# Altium schematic symbol library Library.SchLib: 18 symbols (part 1 of 2)
Pins are listed as number, name and electrical type; pins without a type are passive.

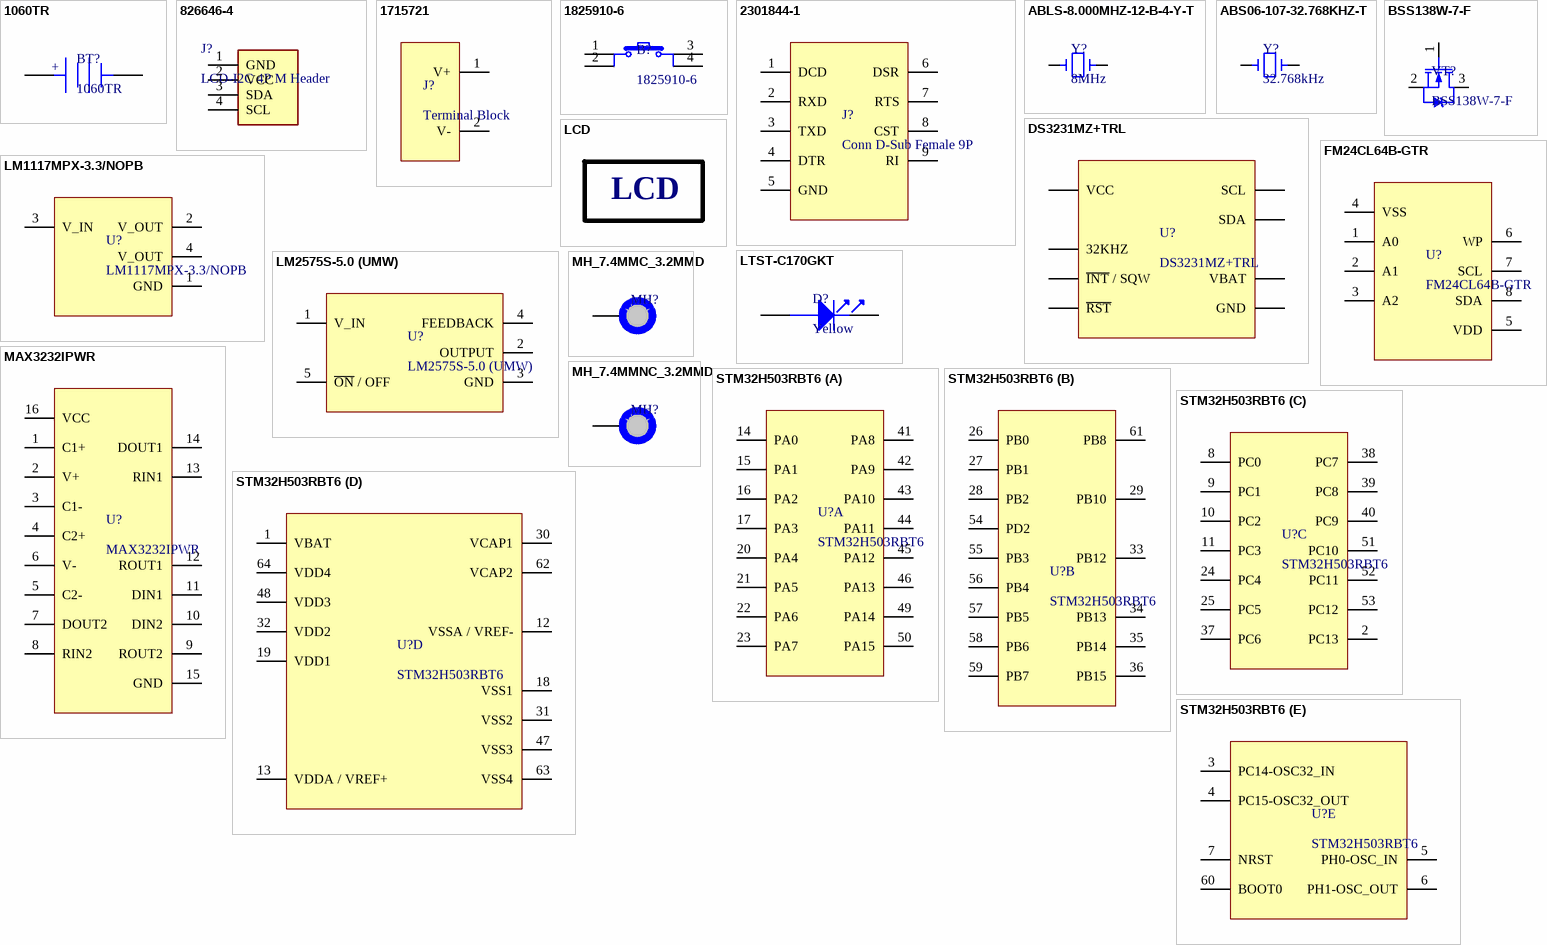
[diagram p0: symbols 1060TR to STM32H503RBT6]

## 1060TR
designator BT?
Low Profile Surface Mount CR2032 Coin Cell Battery Holder; Manufacturer: Keystone; Number of Batteries: 1; Supplier: LCSC; Supplier Part Number: C238069; Manufacturer Part Number: 1060TR; RoHS: Compliant; Category: Batteries and Accessories; Stock: 774; Pricing: 1=0.9433, 10=0.87 (USD); Color: White; Country of Origin: Mainland China; Diameter: 20mm; Export Control Classification Number (ECCN) Code: EAR99; Introduction Date: 2015-11-11; Lead Free: Lead Free; Lifecycle Status: Production; Material: Bronze; Max Operating Temperature: 145°C; Min Operating Temperature: -50°C; Mounting Technology: PCB, Surface Mount; Number of Cells: 1; REACH SVHC: Yes; Termination: SMD/SMT; ComponentLink1URL: https://datasheet.octopart.com:443/1060TR-Keystone-datasheet-21202753.pdf?src-supplier=Farnell; ComponentLink1Description: https://datasheet.octopart.com:443/1060TR-Keystone-datasheet-21202753.pdf?src-supplier=Farnell; ComponentLink2URL: https://datasheet.octopart.com:443/1060TR-Keystone-datasheet-493.pdf?src-supplier=Future+Electronics; ComponentLink2Description: https://datasheet.octopart.com:443/1060TR-Keystone-datasheet-493.pdf?src-supplier=Future+Electronics; ComponentLink3URL: https://datasheet.octopart.com:443/1060TR-Keystone-datasheet-110725636.pdf?src-supplier=Future+Electronics; ComponentLink3Description: https://datasheet.octopart.com:443/1060TR-Keystone-datasheet-110725636.pdf?src-supplier=Future+Electronics; ComponentLink4URL: https://datasheet.octopart.com:443/1060TR-Keystone-datasheet-8326175.pdf?src-supplier=Future+Electronics; ComponentLink4Description: https://datasheet.octopart.com:443/1060TR-Keystone-datasheet-8326175.pdf?src-supplier=Future+Electronics; ComponentLink5URL: https://datasheet.octopart.com:443/1060TR-Keystone-datasheet-159767857.pdf?src-supplier=TME; ComponentLink5Description: https://datasheet.octopart.com:443/1060TR-Keystone-datasheet-159767857.pdf?src-supplier=TME; ComponentLink6URL: https://datasheet.octopart.com:443/1060TR-Keystone-datasheet-137320445.pdf?src-supplier=Sager+Electronics; ComponentLink6Description: https://datasheet.octopart.com:443/1060TR-Keystone-datasheet-137320445.pdf?src-supplier=Sager+Electronics; ComponentLink7URL: https://datasheet.octopart.com:443/1060TR-Keystone-datasheet-14433330.pdf?src-supplier=Factory+Futures; ComponentLink7Description: https://datasheet.octopart.com:443/1060TR-Keystone-datasheet-14433330.pdf?src-supplier=Factory+Futures; ComponentLink8URL: https://datasheet.octopart.com:443/1060TR-Keystone-datasheet-29548.pdf?src-supplier=DigiKey; ComponentLink8Description: https://datasheet.octopart.com:443/1060TR-Keystone-datasheet-29548.pdf?src-supplier=DigiKey
footprint KEYSTONE_1060TR (Battery / Battery Holders, Clips, Contacts / Keystone 1060TR; 3 pin, 31.90 mm L X 16.00 mm W X 5.51 mm H body)
pins: 1, 2
text: +

## 826646-4
designator J?, comment LCD-I2C 4P M Header
Connector; Manufacturer_Name: TE Connectivity; Manufacturer_Part_Number: 826646-4; Datasheet Link: https://www.te.com/commerce/DocumentDelivery/DDEController?Action=srchrtrv&DocNm=826629&DocType=Customer+Drawing&DocLang=English&DocFormat=pdf&PartCntxt=826646-4; Height: 8.8mm; Mouser Part Number: 571-826646-4; Mouser Price/Stock: https://www.mouser.co.uk/ProductDetail/TE-Connectivity/826646-4?qs=iFS2b0%2FgCMG%2Fr%252BKRBAlOvw%3D%3D; Arrow Part Number: 826646-4; Arrow Price/Stock: https://www.arrow.com/en/products/826646-4/te-connectivity?utm_currency=USD&region=europe; Supplier: Mouser; Supplier Part Number: 571-826646-4
footprint HDRV4W68P0X254_1X4_1016X250X880P
pins: 1 GND, 2 VCC, 3 SDA, 4 SCL

## 1715721
designator J?, comment Terminal Block
Terminal Block; 17.5 A; 250 V; 5.08 mm; 26 to 14 AWG; 2; Screw; Solder; 4 kV; Manufacturer: Phoenix Contact; Manufacturer Part Number: 1715721; Approvals: CSA, cUL; Connector Type: PCB, Screw, Terminal Block; Current: 15A; Current Rating: 17.5A; Max Current Rating: 22A; Max Supply Voltage: 250V; Number of Circuits: 2; Number of Levels: 1; Pitch: 5.08mm; Stripping Length: 7mm; Test Voltage: 4kV; Voltage: 300V; Voltage Rating: 400V; Wire/Cable Gauge: 14AWG; Wire Gauge (Max): 26AWG; Supplier: LCSC; Supplier Part Number: C480516; RoHS: Compliant; Category: Terminal Blocks; Stock: 3041; Pricing: 1=0.4719, 10=0.3682, 30=0.3236, 250=0.2599, 500=0.2344, 1000=0.22 (USD); China RoHS: Compliant; Color: Green; Contact Material: Tin; Country of Origin: Germany; Depth: 9.8mm; Export Control Classification Number (ECCN) Code: EAR99; Flammability Rating: UL94 V-0; Height: 17.3mm; Housing Color: Green; Harmonized Tariff Schedule (HTS) Code: 8536.90.40.00; Insulation Material: Nylon; Introduction Date: 1998-01-15; Lead Free: Lead Free; Lead Pitch: 5.08mm; Length: 10.16mm; Lifecycle Status: Production; Max Operating Temperature: 100°C; Min Operating Temperature: -20°C; Mounting Technology: Screw; Number of Contacts: 2; Pins: 2; Number of Poles: 2; Number of Positions: 2; Number of Positions Per Level: 2; Number of Rows: 1; Orientation: Straight; Radiation Hardening: No; REACH SVHC: Yes; Termination: Screw; Voltage Rating (AC): 250V; Weight: 2.939987g; Width: 17.3mm; Wire Gauge (Min): 26AWG; ComponentLink1URL: https://datasheet.octopart.com:443/1715721-Phoenix-Contact-datasheet-181073212.pdf?src-supplier=IHS; ComponentLink1Description: https://datasheet.octopart.com:443/1715721-Phoenix-Contact-datasheet-181073212.pdf?src-supplier=IHS; ComponentLink2URL: https://datasheet.octopart.com:443/1715721-Phoenix-Contact-datasheet-62122377.pdf?src-supplier=Upverter; ComponentLink2Description: https://datasheet.octopart.com:443/1715721-Phoenix-Contact-datasheet-62122377.pdf?src-supplier=Upverter; ComponentLink3URL: https://datasheet.octopart.com:443/1715721-Phoenix-Contact-datasheet-66579234.pdf?src-supplier=Master+Electronics; ComponentLink3Description: https://datasheet.octopart.com:443/1715721-Phoenix-Contact-datasheet-66579234.pdf?src-supplier=Master+Electronics; ComponentLink4URL: https://datasheet.octopart.com:443/1715721-Phoenix-Contact-datasheet-14715205.pdf?src-supplier=Newark; ComponentLink4Description: https://datasheet.octopart.com:443/1715721-Phoenix-Contact-datasheet-14715205.pdf?src-supplier=Newark; ComponentLink5URL: https://datasheet.octopart.com:443/1715721-Phoenix-Contact-datasheet-499485.pdf?src-supplier=Newark; ComponentLink5Description: https://datasheet.octopart.com:443/1715721-Phoenix-Contact-datasheet-499485.pdf?src-supplier=Newark; ComponentLink6URL: https://datasheet.octopart.com:443/1715721-Phoenix-Contact-datasheet-154778360.pdf?src-supplier=Electro+Sonic; ComponentLink6Description: https://datasheet.octopart.com:443/1715721-Phoenix-Contact-datasheet-154778360.pdf?src-supplier=Electro+Sonic; ComponentLink7URL: https://datasheet.octopart.com:443/1715721-Phoenix-Contact-datasheet-9792235.pdf?src-supplier=TodayComponents; ComponentLink7Description: https://datasheet.octopart.com:443/1715721-Phoenix-Contact-datasheet-9792235.pdf?src-supplier=TodayComponents; ComponentLink8URL: https://datasheet.octopart.com:443/1715721-Phoenix-Contact-datasheet-166145896.pdf?src-supplier=Burklin+Elektronik; ComponentLink8Description: https://datasheet.octopart.com:443/1715721-Phoenix-Contact-datasheet-166145896.pdf?src-supplier=Burklin+Elektronik; ComponentLink9URL: https://datasheet.octopart.com:443/1715721-Phoenix-Contact-datasheet-33452854.pdf?src-supplier=MRO+Stop; ComponentLink9Description: https://datasheet.octopart.com:443/1715721-Phoenix-Contact-datasheet-33452854.pdf?src-supplier=MRO+Stop; ComponentLink10URL: https://datasheet.octopart.com:443/1715721-Phoenix-Contact-datasheet-8332660.pdf?src-supplier=Future+Electronics; ComponentLink10Description: https://datasheet.octopart.com:443/1715721-Phoenix-Contact-datasheet-8332660.pdf?src-supplier=Future+Electronics; ComponentLink11URL: https://datasheet.octopart.com:443/1715721-Phoenix-Contact-datasheet-19322.pdf?src-supplier=RS+(Formerly+Allied+Electronics); ComponentLink11Description: https://datasheet.octopart.com:443/1715721-Phoenix-Contact-datasheet-19322.pdf?src-supplier=RS+(Formerly+Allied+Electronics); ComponentLink12URL: https://datasheet.octopart.com:443/1715721-Phoenix-Contact-datasheet-84424.pdf?src-supplier=DigiKey; ComponentLink12Description: https://datasheet.octopart.com:443/1715721-Phoenix-Contact-datasheet-84424.pdf?src-supplier=DigiKey
footprint PHOENIX_1715721 (Connectors, Interconnects / Terminal Blocks / Wire to Board / Phoenix Contact 1715721; 2 pin, 10.00 mm L X 9.80 mm W X 13.80 mm H body)
pins: 1 V+, 2 V-

## 1825910-6
designator B?
Switch Tactile OFF (ON) SPST Round Button PC Pins 0.05A 24VDC 1.57N Thru-Hole Loose; Manufacturer: TE Connectivity; Manufacturer Lifecycle Status: ACTIVE; Actuator Length: 1.397mm; Actuator Material: PBT, Polyacetal, Resin; Contact Current Rating: 50mA; Contact Resistance: 100mΩ; Electrical Life: 100kcycles; Illumination Type: Illuminated, Non-Illuminated; Max Voltage Rating (DC): 24V; Number of Positions: 1; Operating Force: 1.568N; Switch Function: Off-Mom; Switch Travel: 250µm; Supplier: LCSC; Supplier Part Number: C428628; Manufacturer Part Number: 1825910-6; RoHS: Compliant; Category: Pushbutton Switches; Stock: 15605; Pricing: 5=0.1374, 50=0.1164, 150=0.1059, 750=0.094, 2250=0.0877, 5250=0.0845 (USD); China RoHS: Compliant; Color: Black; Contact Material: Copper; Contact Plating: Silver; Current Rating: 50mA; Export Control Classification Number (ECCN) Code: EAR99; ELV: Compliant; Height: 3.61mm; Housing Material: Nylon; Harmonized Tariff Schedule (HTS) Code: 8536.50.90.40; Insulation Resistance: 100MΩ; Introduction Date: 2010-05-28; Lead Free: Lead Free; Length: 5.99mm; Life (Cycles): 100kcycles; Lifecycle Status: Production; Material: Nylon; Max Current Rating: 50mA; Max Operating Temperature: 85°C; Mechanical Life: 100kcycles; Min Operating Temperature: -35°C; Mounting Technology: Through Hole; Orientation: Straight; Packaging: Bulk; REACH SVHC: Yes; Termination: PC Pin, PC Pins; Throw Configuration: SPST; Type: Switch; Voltage Rating (DC): 24V; Width: 6mm; ComponentLink1URL: https://datasheet.octopart.com:443/1825910-6-TE-Connectivity-datasheet-10294628.pdf?src-supplier=HQonline; ComponentLink1Description: https://datasheet.octopart.com:443/1825910-6-TE-Connectivity-datasheet-10294628.pdf?src-supplier=HQonline; ComponentLink2URL: https://datasheet.octopart.com:443/1825910-6-TE-Connectivity-datasheet-179971975.pdf?src-supplier=IHS; ComponentLink2Description: https://datasheet.octopart.com:443/1825910-6-TE-Connectivity-datasheet-179971975.pdf?src-supplier=IHS; ComponentLink3URL: https://datasheet.octopart.com:443/FSM4JH-TE-Connectivity---AMP-datasheet-512274.pdf?src-supplier=IHS; ComponentLink3Description: https://datasheet.octopart.com:443/FSM4JH-TE-Connectivity---AMP-datasheet-512274.pdf?src-supplier=IHS; ComponentLink4URL: https://datasheet.octopart.com:443/1825910-6-TE-Connectivity---Alcoswitch-datasheet-181441334.pdf?src-supplier=IHS; ComponentLink4Description: https://datasheet.octopart.com:443/1825910-6-TE-Connectivity---Alcoswitch-datasheet-181441334.pdf?src-supplier=IHS; ComponentLink5URL: https://datasheet.octopart.com:443/FSM4JH-TE-Connectivity-datasheet-181317608.pdf?src-supplier=IHS; ComponentLink5Description: https://datasheet.octopart.com:443/FSM4JH-TE-Connectivity-datasheet-181317608.pdf?src-supplier=IHS; ComponentLink6URL: https://sigma.octopart.com:443/101748000/technical_drawing/TE-Connectivity-1825910-6.pdf?src-supplier=Sager+Electronics; ComponentLink6Description: https://sigma.octopart.com:443/101748000/technical_drawing/TE-Connectivity-1825910-6.pdf?src-supplier=Sager+Electronics; ComponentLink7URL: https://sigma.octopart.com:443/12291753/technical_drawing/TE-Connectivity-1825910-6.pdf?src-supplier=Burklin+Elektronik; ComponentLink7Description: https://sigma.octopart.com:443/12291753/technical_drawing/TE-Connectivity-1825910-6.pdf?src-supplier=Burklin+Elektronik; ComponentLink8URL: https://datasheet.octopart.com:443/FSM4JH-Tyco-Electronics-datasheet-5302851.pdf?src-supplier=Upverter; ComponentLink8Description: https://datasheet.octopart.com:443/FSM4JH-Tyco-Electronics-datasheet-5302851.pdf?src-supplier=Upverter; ComponentLink9URL: https://sigma.octopart.com:443/58177301/technical_drawing/TE-Connectivity-1825910-6.pdf?src-supplier=TE+Connectivity; ComponentLink9Description: https://sigma.octopart.com:443/58177301/technical_drawing/TE-Connectivity-1825910-6.pdf?src-supplier=TE+Connectivity; ComponentLink10URL: https://datasheet.octopart.com:443/1825910-6-TE-Connectivity-datasheet-33021037.pdf?src-supplier=Farnell; ComponentLink10Description: https://datasheet.octopart.com:443/1825910-6-TE-Connectivity-datasheet-33021037.pdf?src-supplier=Farnell; ComponentLink11URL: https://datasheet.octopart.com:443/FSM4JH-Tyco-Electronics-datasheet-12163206.pdf?src-supplier=Farnell; ComponentLink11Description: https://datasheet.octopart.com:443/FSM4JH-Tyco-Electronics-datasheet-12163206.pdf?src-supplier=Farnell; ComponentLink12URL: https://datasheet.octopart.com:443/FSM4JH-Alcoswitch-datasheet-41434433.pdf?src-supplier=Master+Electronics; ComponentLink12Description: https://datasheet.octopart.com:443/FSM4JH-Alcoswitch-datasheet-41434433.pdf?src-supplier=Master+Electronics; ComponentLink13URL: https://datasheet.octopart.com:443/1825910-6-TE-Connectivity---AMP-datasheet-189108451.pdf?src-supplier=Master+Electronics; ComponentLink13Description: https://datasheet.octopart.com:443/1825910-6-TE-Connectivity---AMP-datasheet-189108451.pdf?src-supplier=Master+Electronics; ComponentLink14URL: https://datasheet.octopart.com:443/1825910-6-TE-Connectivity-datasheet-145419878.pdf?src-supplier=RS+(Formerly+Allied+Electronics); ComponentLink14Description: https://datasheet.octopart.com:443/1825910-6-TE-Connectivity-datasheet-145419878.pdf?src-supplier=RS+(Formerly+Allied+Electronics); ComponentLink15URL: https://datasheet.octopart.com:443/FSM4JH-Agastat-datasheet-15984561.pdf?src-supplier=RS+(Formerly+Allied+Electronics); ComponentLink15Description: https://datasheet.octopart.com:443/FSM4JH-Agastat-datasheet-15984561.pdf?src-supplier=RS+(Formerly+Allied+Electronics); ComponentLink16URL: https://datasheet.octopart.com:443/1825910-6-TE-Connectivity-datasheet-140613545.pdf?src-supplier=TME; ComponentLink16Description: https://datasheet.octopart.com:443/1825910-6-TE-Connectivity-datasheet-140613545.pdf?src-supplier=TME; ComponentLink17URL: https://datasheet.octopart.com:443/1825910-6-TE-Connectivity---AMP-datasheet-23715110.pdf?src-supplier=Electro+Sonic; ComponentLink17Description: https://datasheet.octopart.com:443/1825910-6-TE-Connectivity---AMP-datasheet-23715110.pdf?src-supplier=Electro+Sonic; ComponentLink18URL: http://sigma.octopart.com:80/14574207/rohs_statement/TE-Connectivity-1825910-6.pdf?src-supplier=Compliance+Statements; ComponentLink18Description: http://sigma.octopart.com:80/14574207/rohs_statement/TE-Connectivity-1825910-6.pdf?src-supplier=Compliance+Statements; ComponentLink19URL: http://sigma.octopart.com:80/41598133/materials_sheet/TE-Connectivity-1825910-6.pdf?src-supplier=Compliance+Statements; ComponentLink19Description: http://sigma.octopart.com:80/41598133/materials_sheet/TE-Connectivity-1825910-6.pdf?src-supplier=Compliance+Statements; ComponentLink20URL: http://sigma.octopart.com:80/78006367/materials_sheet/TE-Connectivity-1825910-6.pdf?src-supplier=Compliance+Statements; ComponentLink20Description: http://sigma.octopart.com:80/78006367/materials_sheet/TE-Connectivity-1825910-6.pdf?src-supplier=Compliance+Statements; ComponentLink21URL: http://sigma.octopart.com:80/136693561/materials_sheet/TE-Connectivity-1825910-6.pdf?src-supplier=Compliance+Statements; ComponentLink21Description: http://sigma.octopart.com:80/136693561/materials_sheet/TE-Connectivity-1825910-6.pdf?src-supplier=Compliance+Statements; ComponentLink22URL: http://sigma.octopart.com:80/14555950/rohs_certificate/Agastat-FSM4JH.pdf?src-supplier=Compliance+Statements; ComponentLink22Description: http://sigma.octopart.com:80/14555950/rohs_certificate/Agastat-FSM4JH.pdf?src-supplier=Compliance+Statements
footprint TE_1825910-6 (Switches Tactile Switches; 4 pin, 5.99 mm L X 5.99 mm W X 5.00 mm H body)
pins: 1, 2, 3, 4

## 2301844-1
designator J?, comment Conn D-Sub Female 9P
Conn D-Sub SKT 9 POS 1.39mm Solder RA Thru-Hole 9 Terminal 1 Port Tray; Manufacturer: TE Connectivity; Manufacturer Part Number: 2301844-1; Manufacturer Lifecycle Status: ACTIVE; Contact Current Rating: 2A; Gender: Receptacle; Number of Ports: 1; Number of Positions: 9; Row Spacing: 2.54mm; Shielding: Unshielded; Supplier: LCSC; Supplier Part Number: C3135162; RoHS: Compliant; Category: D-Sub Connectors; Stock: 1425; Pricing: 1=2.2821, 10=1.9697, 30=1.7737, 100=1.5729, 500=1.4821, 1000=1.4423 (USD); China RoHS: Compliant; Color: Black; Connector Type: D-Sub; Contact Gender: Female; Contact Material: Brass; Current Rating: 2A; Export Control Classification Number (ECCN) Code: EAR99; Housing Color: Black; Housing Material: Steel; Harmonized Tariff Schedule (HTS) Code: 8536.69.40.30; Introduction Date: 2021-09-08; Lifecycle Status: Production; Max Operating Temperature: 105°C; Min Operating Temperature: -55°C; Pins: 9; Number of Rows: 2; REACH SVHC: Yes; Shell Finish: Nickel; Shell Material: Steel; Terminal Pitch: 2.77mm; ComponentLink1URL: https://datasheet.octopart.com:443/2301844-1-TE-Connectivity-datasheet-180031964.pdf?src-supplier=Farnell; ComponentLink1Description: https://datasheet.octopart.com:443/2301844-1-TE-Connectivity-datasheet-180031964.pdf?src-supplier=Farnell; ComponentLink2URL: https://sigma.octopart.com:443/145347632/technical_drawing/TE-Connectivity-2301844-1.pdf?src-supplier=HQonline; ComponentLink2Description: https://sigma.octopart.com:443/145347632/technical_drawing/TE-Connectivity-2301844-1.pdf?src-supplier=HQonline; ComponentLink3URL: https://datasheet.octopart.com:443/2301844-1-TE-Connectivity-datasheet-181434920.pdf?src-supplier=JRH+Electronics; ComponentLink3Description: https://datasheet.octopart.com:443/2301844-1-TE-Connectivity-datasheet-181434920.pdf?src-supplier=JRH+Electronics; ComponentLink4URL: https://datasheet.octopart.com:443/2301844-1-TE-Connectivity-datasheet-166213579.pdf?src-supplier=RS+(Formerly+Allied+Electronics); ComponentLink4Description: https://datasheet.octopart.com:443/2301844-1-TE-Connectivity-datasheet-166213579.pdf?src-supplier=RS+(Formerly+Allied+Electronics); ComponentLink5URL: http://sigma.octopart.com:80/145347631/materials_sheet/TE-Connectivity-2301844-1.pdf?src-supplier=Compliance+Statements; ComponentLink5Description: http://sigma.octopart.com:80/145347631/materials_sheet/TE-Connectivity-2301844-1.pdf?src-supplier=Compliance+Statements
footprint DB9_F_TH_RA_TE2301844 (Connectors, Interconnects / D-Sub, D-Shaped Connectors / D-Sub Connector / TE Connectivity 2301844-1; 9 pin, 30.81 mm L X 20.65 mm W X 13.575 mm H body; 9 pin, 30.81 mm L X 20.65 mm W X 13.575 mm H body)
pins: 1 DCD, 2 RXD, 3 TXD, 4 DTR, 5 GND, 6 DSR, 7 RTS, 8 CST, 9 RI

## ABLS-8.000MHZ-12-B-4-Y-T
designator Y?, comment 8MHz
Crystal 8MHz ±30ppm (Tol) ±30ppm (Stability) 12pF FUND 80Ohm 2-Pin HC-49/US SMD T/R; Manufacturer: Abracon; Manufacturer Part Number: ABLS-8.000MHZ-12-B-4-Y-T; ESR (Equivalent Series Resistance): 80Ω; Frequency Tolerance: 0.003%; Supplier: LCSC; Supplier Part Number: C5933213; RoHS: Compliant; Category: Crystals; Stock: 85; Pricing: 1=0.2981, 10=0.2917, 30=0.2885, 100=0.2837 (USD); China RoHS: Compliant; Frequency: 8MHz; Frequency Stability: 30ppm; Height: 4.2mm; Introduction Date: 2014-06-16; Length: 11.4mm; Lifecycle Status: Production; Load Capacitance: 12pF; Max Operating Temperature: 70°C; Min Operating Temperature: -20°C; Mounting Technology: Surface Mount; REACH SVHC: Yes; Schedule B: 8541600025, 8541600080, 8541600080|8541600080, 8541600080|8541600080|8541600080; ESR: 80Ω; Width: 4.7mm; ComponentLink1URL: https://datasheet.octopart.com:443/ABLS-8.000MHZ-12-B-4-Y-T-Abracon-datasheet-182204513.pdf?src-supplier=IHS; ComponentLink1Description: https://datasheet.octopart.com:443/ABLS-8.000MHZ-12-B-4-Y-T-Abracon-datasheet-182204513.pdf?src-supplier=IHS; ComponentLink2URL: https://datasheet.octopart.com:443/ABLS-8.000MHZ-12-B-4-Y-T-Abracon-datasheet-37142362.pdf?src-supplier=IHS; ComponentLink2Description: https://datasheet.octopart.com:443/ABLS-8.000MHZ-12-B-4-Y-T-Abracon-datasheet-37142362.pdf?src-supplier=IHS; ComponentLink3URL: https://datasheet.octopart.com:443/ABLS-8.000MHZ-12-B-4-Y-T-Abracon-datasheet-139816269.pdf?src-supplier=Electro+Sonic; ComponentLink3Description: https://datasheet.octopart.com:443/ABLS-8.000MHZ-12-B-4-Y-T-Abracon-datasheet-139816269.pdf?src-supplier=Electro+Sonic; ComponentLink4URL: https://sigma.octopart.com:443/141159843/technical_drawing/Abracon-ABLS-8.000MHZ-12-B-4-Y-T.pdf?src-supplier=Abracon+SCT; ComponentLink4Description: https://sigma.octopart.com:443/141159843/technical_drawing/Abracon-ABLS-8.000MHZ-12-B-4-Y-T.pdf?src-supplier=Abracon+SCT; ComponentLink5URL: http://sigma.octopart.com:80/conflict_mineral_statement/Abracon-company-27.pdf?src-supplier=Compliance+Statements; ComponentLink5Description: http://sigma.octopart.com:80/conflict_mineral_statement/Abracon-company-27.pdf?src-supplier=Compliance+Statements
footprint ABLS-8.000MHZ-12-B-4-Y-TN (SMD Crystal; 11.40 mm L X 4.70 mm W X 4.30 mm H body)
pins: 1, 2

## ABS06-107-32.768KHZ-T
designator Y?, comment 32.768kHz
Crystal, Tuning Fork, 32.768 kHz, SMD, 2mm x 1.2mm x 0.6mm, 250 ppm, 4.1 pF, 20 ppm, ABS06; Manufacturer: Abracon; Manufacturer Part Number: ABS06-107-32.768KHZ-T; ESR (Equivalent Series Resistance): 60kΩ; Frequency Stability: 250ppm; Frequency Tolerance: 0.002%; Load Capacitance: 4pF; ESR: 80kΩ; Supplier: LCSC; Supplier Part Number: C276418; RoHS: Compliant; Category: Crystals; Stock: 1073; Pricing: 1=0.7093, 10=0.5765, 30=0.5092, 100=0.4436, 500=0.3667, 1000=0.3459 (USD); Case/Package: 0805; Case Code (Imperial): 0805; Case Code (Metric): 2012; China RoHS: Compliant; Contact Plating: Gold; Frequency: 32.768kHz; Height: 600µm; Lead Free: Lead Free; Length: 2.0066mm; Lifecycle Status: Production; Max Operating Temperature: 85°C; Min Operating Temperature: -40°C; Mounting Technology: Surface Mount; Pins: 2; Radiation Hardening: No; REACH SVHC: Yes; Schedule B: 8541600025, 8541600080; Termination: SMD/SMT; Tolerance: 0.002%; Width: 1.1938mm; ComponentLink1URL: https://datasheet.octopart.com:443/ABS06-107-32.768KHZ-T-Abracon-datasheet-182205053.pdf?src-supplier=JRH+Electronics; ComponentLink1Description: https://datasheet.octopart.com:443/ABS06-107-32.768KHZ-T-Abracon-datasheet-182205053.pdf?src-supplier=JRH+Electronics; ComponentLink2URL: https://datasheet.octopart.com:443/ABS06-107-32.768KHZ-T-Abracon-datasheet-41191558.pdf?src-supplier=Sager+Electronics; ComponentLink2Description: https://datasheet.octopart.com:443/ABS06-107-32.768KHZ-T-Abracon-datasheet-41191558.pdf?src-supplier=Sager+Electronics; ComponentLink3URL: https://datasheet.octopart.com:443/ABS06-107-32.768KHZ-T-Abracon-datasheet-21189882.pdf?src-supplier=Sager+Electronics; ComponentLink3Description: https://datasheet.octopart.com:443/ABS06-107-32.768KHZ-T-Abracon-datasheet-21189882.pdf?src-supplier=Sager+Electronics; ComponentLink4URL: https://datasheet.octopart.com:443/ABS06-107-32.768KHZ-T-Abracon-datasheet-37124832.pdf?src-supplier=Newark; ComponentLink4Description: https://datasheet.octopart.com:443/ABS06-107-32.768KHZ-T-Abracon-datasheet-37124832.pdf?src-supplier=Newark; ComponentLink5URL: http://sigma.octopart.com:80/conflict_mineral_statement/Abracon-company-27.pdf?src-supplier=Compliance+Statements; ComponentLink5Description: http://sigma.octopart.com:80/conflict_mineral_statement/Abracon-company-27.pdf?src-supplier=Compliance+Statements
footprint ABRACON_ABS06-107-32_768KHZ-T (Crystals; 2 pin, 2.00 mm L X 1.20 mm W X 0.60 mm H body)
pins: 1, 2

## BSS138W-7-F
designator VT?
Transistor: N-MOSFET; unipolar; 50V; 0.2A; 3.5ohm; 0.2W; -55+150 deg.C; SMD; SOT323(SC70); Manufacturer: Diodes Inc.; Continuous Drain Current (ID): 200mA; Current: 2A; Drain to Source Breakdown Voltage: 75V; Drain to Source Resistance: 3.5Ω; Element Configuration: Single; Gate to Source Voltage (Vgs): 20V; Input Capacitance: 50pF; Max Power Dissipation: 200mW; Nominal Vgs: 1.2V; Number of Channels: 1; Turn-Off Delay Time: 20ns; Value: 3.5Ω; Supplier: LCSC; Supplier Part Number: C24553; Manufacturer Part Number: BSS138W-7-F; RoHS: Compliant; Category: MOSFETs; Stock: 14390; Pricing: 10=0.034, 10=0.039, 10=0.3113, 10=0.2851, 100=0.0313, 100=0.2498, 100=0.0273, 100=0.2288, 300=0.0239, 300=0.0274, 300=0.2003, 300=0.2187, 3000=0.0245, 3000=0.1791, 3000=0.1956, 3000=0.0214, 6000=0.0194, 6000=0.1623, 6000=0.0222, 6000=0.1772, 9000=0.0184, 9000=0.0211, 9000=0.1543, 9000=0.1684 (EUR); Case/Package: SOT-323; China RoHS: Compliant; Contact Plating: Tin; Current Rating: 200mA; Drain to Source Voltage (Vdss): 50V; Dual Supply Voltage: 50V; Height: 1mm; Lead Free: Lead Free; Length: 2.2mm; Lifecycle Status: Production; Max Operating Temperature: 150°C; Min Breakdown Voltage: 50V; Min Operating Temperature: -55°C; Mounting Technology: Surface Mount; Number of Elements: 1; Pins: 3; Number of Terminals: 3; Power Dissipation: 200mW; Rds On Max: 3.5Ω; REACH SVHC: Yes; Schedule B: 8541210080, 8541210080|8541210080|8541210080|8541210080|8541210080; Termination: SMD/SMT; Threshold Voltage: 1.2V; Turn-On Delay Time: 20ns; Voltage: 50V; Voltage Rating (DC): 50V; Weight: 6.010099mg; Width: 1.35mm; ComponentLink1URL: https://datasheet.octopart.com:443/BSS138W-7-F-Diodes-Inc.-datasheet-180551831.pdf?src-supplier=Newark; ComponentLink1Description: https://datasheet.octopart.com:443/BSS138W-7-F-Diodes-Inc.-datasheet-180551831.pdf?src-supplier=Newark; ComponentLink2URL: https://datasheet.octopart.com:443/BSS138W-7-F-Diodes-Inc.-datasheet-10330874.pdf?src-supplier=Newark; ComponentLink2Description: https://datasheet.octopart.com:443/BSS138W-7-F-Diodes-Inc.-datasheet-10330874.pdf?src-supplier=Newark; ComponentLink3URL: https://datasheet.octopart.com:443/BSS138W-7-F-Diodes-Inc.-datasheet-37113701.pdf?src-supplier=Newark; ComponentLink3Description: https://datasheet.octopart.com:443/BSS138W-7-F-Diodes-Inc.-datasheet-37113701.pdf?src-supplier=Newark; ComponentLink4URL: https://datasheet.octopart.com:443/BSS138W-7-F-Diodes-Inc.-datasheet-8424047.pdf?src-supplier=Newark; ComponentLink4Description: https://datasheet.octopart.com:443/BSS138W-7-F-Diodes-Inc.-datasheet-8424047.pdf?src-supplier=Newark; ComponentLink5URL: https://datasheet.octopart.com:443/BSS138W-7-F-Diodes-Inc.-datasheet-115885208.pdf?src-supplier=Diodes+Inc+SCT; ComponentLink5Description: https://datasheet.octopart.com:443/BSS138W-7-F-Diodes-Inc.-datasheet-115885208.pdf?src-supplier=Diodes+Inc+SCT; ComponentLink6URL: https://sigma.octopart.com:443/138896157/technical_drawing/Diodes-Inc.-BSS138W-7-F.pdf?src-supplier=Diodes+Inc+SCT; ComponentLink6Description: https://sigma.octopart.com:443/138896157/technical_drawing/Diodes-Inc.-BSS138W-7-F.pdf?src-supplier=Diodes+Inc+SCT; ComponentLink7URL: https://datasheet.octopart.com:443/BSS138W-7-F-Diodes-Inc.-datasheet-133631.pdf?src-supplier=Mouser; ComponentLink7Description: https://datasheet.octopart.com:443/BSS138W-7-F-Diodes-Inc.-datasheet-133631.pdf?src-supplier=Mouser; ComponentLink8URL: https://datasheet.octopart.com:443/BSS138W-7-F-Diodes-Inc.-datasheet-14061695.pdf?src-supplier=iiiC; ComponentLink8Description: https://datasheet.octopart.com:443/BSS138W-7-F-Diodes-Inc.-datasheet-14061695.pdf?src-supplier=iiiC; ComponentLink9URL: https://datasheet.octopart.com:443/BSS138W-7-F-Diodes-Inc.-datasheet-7840986.pdf?src-supplier=Jameco; ComponentLink9Description: https://datasheet.octopart.com:443/BSS138W-7-F-Diodes-Inc.-datasheet-7840986.pdf?src-supplier=Jameco; ComponentLink10URL: http://sigma.octopart.com:80/15540767/rohs_statement/Diodes-Inc.-BSS138W-7-F.pdf?src-supplier=Compliance+Statements; ComponentLink10Description: http://sigma.octopart.com:80/15540767/rohs_statement/Diodes-Inc.-BSS138W-7-F.pdf?src-supplier=Compliance+Statements; Supplier 1: LCSC; Supplier Part Number 1: C24553
footprint SOT23-3P65_222X100L35X30N (Small Outline Transistor, SOT-23 Type, 0.65 mm pitch; 3 pin, 2.00 mm L X 1.25 mm W X 1.00 mm H body)
pins: 1 G, 2 S, 3 D

## DS3231MZ+TRL
designator U?
DS3231M Series 2.3 to 5.5 V ±5ppm 130µA Surface Mount I2C Real-Time Clock-SOIC-8; Manufacturer: Analog Devices; Manufacturer Lifecycle Status: PRODUCTION; Date Format: YY-MM-DD-dd; Evaluation Kit: Yes; Logic Function: Clock; Max Supply Voltage: 5.5V; Min Supply Voltage: 2.3V; Operating Supply Voltage: 3.3V; Time Format: HH:MM:SS (12/24 hr); Supplier: LCSC; Supplier Part Number: C107410; Manufacturer Part Number: DS3231MZ+TRL; RoHS: Compliant; Category: Real Time Clocks; Stock: 4355; Pricing: 1=3.1123, 10=2.7683, 30=2.5251, 100=2.3043, 500=2.2018, 1000=2.1602 (USD); Case/Package: SOIC; Interface: I2C; Lifecycle Status: Production; Max Operating Temperature: 85°C; Min Operating Temperature: -40°C; Mounting Technology: Surface Mount; Pins: 8; Packaging: Cut Tape; Radiation Hardening: No; REACH SVHC: Unknown; Schedule B: 8542390000|8542390000|8542390000|8542390000|8542390000|8542390000|8542390000|8542390000|8542390000|8542390000|8542390000|8542390000|8542390000|8542390000|8542390000|8542390000|8542390000|8542390000|8542390000|8542390000|8542390000|8542390000|8542390000|85; ComponentLink1URL: https://octopart.com:443/opatz8j6/c1?t=j4bw0K8sMsA-ZkoLsro0xQX5ESPRYIMOlUiyeyquVOGoWVUAJ6yxfE6taSf3MIQv76Yez4Pdm2B6Dd4bnQ_ySY_rrzIN0owqxRtZ9uWOclUtI63wDvXcqyg3l3MAGUY20cZoJrA0A4X3XKpuLNFozI2s_buRmJV-jGEHt9RKTKx7X37w2KpnakPm3uXskO-0aHc-gOiCqYH7keTys-VW2T_NNS40SddYC9j8wVWR99-viGznNei1z9ekJJvWfWsUPlv-Kk9BpW338JJ9kYCPIKI094rwCoNYdETiITkWeTohkYdUotsBA9H-&src-supplier=Analog+Devices; ComponentLink1Description: https://octopart.com:443/opatz8j6/c1?t=j4bw0K8sMsA-ZkoLsro0xQX5ESPRYIMOlUiyeyquVOGoWVUAJ6yxfE6taSf3MIQv76Yez4Pdm2B6Dd4bnQ_ySY_rrzIN0owqxRtZ9uWOclUtI63wDvXcqyg3l3MAGUY20cZoJrA0A4X3XKpuLNFozI2s_buRmJV-jGEHt9RKTKx7X37w2KpnakPm3uXskO-0aHc-gOiCqYH7keTys-VW2T_NNS40SddYC9j8wVWR99-viGznNei1z9ekJJvWfWsUPlv-Kk9BpW338JJ9kYCPIKI094rwCoNYdETiITkWeTohkYdUotsBA9H-&src-supplier=Analog+Devices; ComponentLink2URL: https://datasheet.octopart.com:443/DS3231MZ%2BTRL-Dallas-Semiconductor-datasheet-13717986.pdf?src-supplier=Upverter; ComponentLink2Description: https://datasheet.octopart.com:443/DS3231MZ%2BTRL-Dallas-Semiconductor-datasheet-13717986.pdf?src-supplier=Upverter; ComponentLink3URL: https://datasheet.octopart.com:443/DS3231MZ%2BTRL-Analog-Devices-datasheet-62054857.pdf?src-supplier=LKR; ComponentLink3Description: https://datasheet.octopart.com:443/DS3231MZ%2BTRL-Analog-Devices-datasheet-62054857.pdf?src-supplier=LKR; ComponentLink4URL: https://datasheet.octopart.com:443/DS3231MZ%2BTRL-Maxim-Integrated-datasheet-159004021.pdf?src-supplier=Augswan; ComponentLink4Description: https://datasheet.octopart.com:443/DS3231MZ%2BTRL-Maxim-Integrated-datasheet-159004021.pdf?src-supplier=Augswan; ComponentLink5URL: https://sigma.octopart.com:443/138901689/technical_drawing/Maxim-Integrated-DS3231MZ%2BTRL.pdf?src-supplier=ShanghaiCT; ComponentLink5Description: https://sigma.octopart.com:443/138901689/technical_drawing/Maxim-Integrated-DS3231MZ%2BTRL.pdf?src-supplier=ShanghaiCT; ComponentLink6URL: https://datasheet.octopart.com:443/DS3231MZ%2BTRL-Analog-Devices-datasheet-166785826.pdf?src-supplier=Arrow.cn; ComponentLink6Description: https://datasheet.octopart.com:443/DS3231MZ%2BTRL-Analog-Devices-datasheet-166785826.pdf?src-supplier=Arrow.cn; ComponentLink7URL: http://sigma.octopart.com:80/conflict_mineral_statement/Analog-Devices-company-33.pdf?src-supplier=Compliance+Statements; ComponentLink7Description: http://sigma.octopart.com:80/conflict_mineral_statement/Analog-Devices-company-33.pdf?src-supplier=Compliance+Statements; ComponentLink8URL: http://sigma.octopart.com:80/reach_statement/Maxim-Integrated-company-67.pdf?src-supplier=Compliance+Statements; ComponentLink8Description: http://sigma.octopart.com:80/reach_statement/Maxim-Integrated-company-67.pdf?src-supplier=Compliance+Statements; ComponentLink9URL: http://sigma.octopart.com:80/rohs_statement/Maxim-Integrated-company-66.pdf?src-supplier=Compliance+Statements; ComponentLink9Description: http://sigma.octopart.com:80/rohs_statement/Maxim-Integrated-company-66.pdf?src-supplier=Compliance+Statements; ComponentLink10URL: http://sigma.octopart.com:80/conflict_mineral_statement/Maxim-Integrated-company-65.pdf?src-supplier=Compliance+Statements; ComponentLink10Description: http://sigma.octopart.com:80/conflict_mineral_statement/Maxim-Integrated-company-65.pdf?src-supplier=Compliance+Statements; ComponentLink11URL: https://octopart.com:443/opatz8j6/c1?t=pubgPhJY4M9BzUyDBmvxwF7otLU2rkr5U85U_RaWsENQZ4GiZdJWmmVEABw8uGgmYC3rk0hqxhd4DIKpQ6Ol6-8aCbc04hoqz9MFXdLB1Y02JAn7LDmtel5HtGBmNRe3PkBlvSJ0Fmv8qSVT37HdSxd6q1jQSU8I2SquEnO3WEN5m_d7xnXEmPQ_MZ4IjLZomZ_lGZnI-JxaGXDCbZ_U7l3rETBaHm2rsWpjxQRRugtlp5z3FsyKOpHUZD-NqQAYibIn0SQNj3_H2-nEGF95Y-A8D6Dw9AMJfMuzQMcFp3zAv_g4YDug8Hbr&src-supplier=Compliance+Statements; ComponentLink11Description: https://octopart.com:443/opatz8j6/c1?t=pubgPhJY4M9BzUyDBmvxwF7otLU2rkr5U85U_RaWsENQZ4GiZdJWmmVEABw8uGgmYC3rk0hqxhd4DIKpQ6Ol6-8aCbc04hoqz9MFXdLB1Y02JAn7LDmtel5HtGBmNRe3PkBlvSJ0Fmv8qSVT37HdSxd6q1jQSU8I2SquEnO3WEN5m_d7xnXEmPQ_MZ4IjLZomZ_lGZnI-JxaGXDCbZ_U7l3rETBaHm2rsWpjxQRRugtlp5z3FsyKOpHUZD-NqQAYibIn0SQNj3_H2-nEGF95Y-A8D6Dw9AMJfMuzQMcFp3zAv_g4YDug8Hbr&src-supplier=Compliance+Statements
footprint SOIC8P127_490X600X175L83X42N (Small Outline IC (SOIC), 1.27 mm pitch; 8 pin, 4.90 mm L X 3.90 mm W X 1.75 mm H body)
pins: 1 32KHZ, 2 VCC, 3 ~{INT} / SQW, 4 ~{RST}, 5 GND, 6 VBAT, 7 SDA, 8 SCL

## FM24CL64B-GTR
designator U?
Ferroelectric RAM (FRAM), 64 Kbit (8K x 8) I2C, 1 MHz, 2.7 V to 3.65 V Supply, SOIC-8; Manufacturer: Infineon; Access Time: 3µs; Data Bus Width: 8b; Density: 64kb; Frequency: 1MHz; Interface: Serial; Max Supply Current: 300µA; Max Supply Voltage: 3.65V; Memory Size: 8kB; Min Supply Voltage: 2.7V; Number of Circuits: 1; Operating Supply Voltage: 3.3V; Supplier: LCSC; Supplier Part Number: C9829; Manufacturer Part Number: FM24CL64B-GTR; RoHS: Compliant; Category: RAM; Stock: 15684; Pricing: 1=2.82, 10=2.64, 50=2.5, 100=2.45, 1000=2.26, 10000=2.01 (USD); Ambient Temperature Range High: 85°C; Case/Package: SOP; China RoHS: Compliant; Contact Plating: Tin; Country of Origin: Taiwan, Thailand; Export Control Classification Number (ECCN) Code: EAR99; Height: 1.727mm; Height - Seated (Max): 1.727mm; Harmonized Tariff Schedule (HTS) Code: 8542.32.00.71; Introduction Date: 2008-11-08; Lead Free: Lead Free; Length: 4.889mm; Lifecycle Status: Production; Clock Frequency: 1MHz; Max Operating Temperature: 85°C; Memory Format: FRAM; Min Operating Temperature: -40°C; Mounting Technology: Surface Mount; Nominal Supply Current: 300µA; Pins: 8; Number of Terminals: 8; Packaging: Tape & Reel (TR); Radiation Hardening: No; REACH SVHC: Yes; Schedule B: 8542320070, 8542320070|8542320070|8542320070|8542320070|8542320070; Terminal Pitch: 1.27mm; Width: 3.8985mm; Word Size: 8b; ComponentLink1URL: https://datasheet.octopart.com:443/FM24CL64B-GTR-Infineon-datasheet-179240971.pdf?src-supplier=IHS; ComponentLink1Description: https://datasheet.octopart.com:443/FM24CL64B-GTR-Infineon-datasheet-179240971.pdf?src-supplier=IHS; ComponentLink2URL: https://datasheet.octopart.com:443/FM24CL64B-GTR-Ramtron-datasheet-10742132.pdf?src-supplier=Future+Electronics; ComponentLink2Description: https://datasheet.octopart.com:443/FM24CL64B-GTR-Ramtron-datasheet-10742132.pdf?src-supplier=Future+Electronics; ComponentLink3URL: https://datasheet.octopart.com:443/FM24CL64B-GTR-Cypress-Semiconductor-datasheet-26386043.pdf?src-supplier=Future+Electronics; ComponentLink3Description: https://datasheet.octopart.com:443/FM24CL64B-GTR-Cypress-Semiconductor-datasheet-26386043.pdf?src-supplier=Future+Electronics; ComponentLink4URL: https://datasheet.octopart.com:443/FM24CL64B-GTR-Cypress-Semiconductor-datasheet-15164122.pdf?src-supplier=Future+Electronics; ComponentLink4Description: https://datasheet.octopart.com:443/FM24CL64B-GTR-Cypress-Semiconductor-datasheet-15164122.pdf?src-supplier=Future+Electronics; ComponentLink5URL: https://datasheet.octopart.com:443/FM24CL64B-GTR-Infineon-datasheet-83957019.pdf?src-supplier=element14+APAC; ComponentLink5Description: https://datasheet.octopart.com:443/FM24CL64B-GTR-Infineon-datasheet-83957019.pdf?src-supplier=element14+APAC; ComponentLink6URL: https://datasheet.octopart.com:443/FM24CL64B-GTR-Cypress-Semiconductor-datasheet-163652854.pdf?src-supplier=Augswan; ComponentLink6Description: https://datasheet.octopart.com:443/FM24CL64B-GTR-Cypress-Semiconductor-datasheet-163652854.pdf?src-supplier=Augswan; ComponentLink7URL: https://datasheet.octopart.com:443/FM24CL64B-GTR-Infineon-datasheet-61014645.pdf?src-supplier=SOS+electronic; ComponentLink7Description: https://datasheet.octopart.com:443/FM24CL64B-GTR-Infineon-datasheet-61014645.pdf?src-supplier=SOS+electronic; ComponentLink8URL: https://datasheet.octopart.com:443/FM24CL64B-GTR-Infineon-datasheet-140567252.pdf?src-supplier=Arrow.cn; ComponentLink8Description: https://datasheet.octopart.com:443/FM24CL64B-GTR-Infineon-datasheet-140567252.pdf?src-supplier=Arrow.cn; ComponentLink9URL: http://sigma.octopart.com:80/conflict_mineral_statement/Infineon-company-51.pdf?src-supplier=Compliance+Statements; ComponentLink9Description: http://sigma.octopart.com:80/conflict_mineral_statement/Infineon-company-51.pdf?src-supplier=Compliance+Statements
footprint SOIC8P127_488X601X172L64X41N (Small Outline IC (SOIC), 1.27 mm pitch; 8 pin, 4.889 mm L X 3.899 mm W X 1.727 mm H body)
pins: 1 A0, 2 A1, 3 A2, 4 VSS, 5 VDD, 6 WP, 7 SCL, 8 SDA

## LCD
designator D?  (value not drawn)  (mechanical)
footprint LCD

## LM1117MPX-3.3/NOPB
designator U?
75dB@(120Hz) 800mA Fixed 3.3V Positive 15V SOT-223 Linear Voltage Regulators (LDO) ROHS; Manufacturer: Texas Instruments; Manufacturer Lifecycle Status: ACTIVE; Accuracy: 1%; Dropout Voltage: 1.2V; Min Input Voltage: 2.6V; Number of Channels: 1; Quiescent Current: 10mA; Supplier: LCSC; Supplier Part Number: C9662; Manufacturer Part Number: LM1117MPX-3.3/NOPB; RoHS: Compliant; Category: LDO Voltage Regulators; Stock: 19895; Pricing: 5=0.2538, 50=0.2064, 150=0.1832, 500=0.1605, 2000=0.1548, 4000=0.1514 (USD); Case/Package: SOT-223; Contact Plating: Tin; Current Rating: 800mA; Height: 1.8mm; Lead Free: Lead Free; Length: 6.5mm; Lifecycle Status: Production; Max Supply Voltage: 15V; Max Operating Temperature: 125°C; Max Output current: 800mA; Max Output Voltage: 3.3V; Min Current Limit: 800mA; Min Operating Temperature: 0°C; Mounting Technology: Surface Mount; Nominal Output Voltage: 3.3V; Number of Outputs: 1; Pins: 4; Number of Regulators: 1; Output Current: 800mA; Output Type: Fixed; Output Voltage: 3.3V; Output Voltage Accuracy: 1%; Packaging: Cut Tape; Polarity: Positive; Radiation Hardening: No; REACH SVHC: No; Schedule B: 8542390000, 8542390000|8542390000|8542390000|8542390000|8542390000; Thickness: 1.6mm; Width: 3.5mm; ComponentLink1URL: https://octopart.com:443/opatz8j6/c1?t=ofqMrOyg8YHNUQaj0n4DGAhVWJBIAQaXgPtk1nlLO4bX62K7KoqINwiGIO3xK3-eSoNqWds65xdPl1fnUHFdycaE3SyziRdw6nRis0X34pykfuh_KoPrazqG3TUrGTiBaSE4_3i-lfWpT0vYnKUYpjN_CRjaFyV5OXU0y1K0LjXs3orX_IXtIMxJaa-9923FtHwxEhBevTbhFEX8UVW6XaAPchWj-4ej7jl9ysBjxLJ8eZXsYPvwnEJr57qTPS2s42cGZHl2S9FoJAq7OYYAKSjsqFy499uaj1dksaqM3dCO35tyTcsOY-LCHNwWTgeGuio4wclaWmoGy2Z5qvs6XGpHn3EN0PibzGOR5zxbO_2_jdxh0tS11zASNTAILcDzAtKwNw&src-supplier=Texas+Instruments; ComponentLink1Description: https://octopart.com:443/opatz8j6/c1?t=ofqMrOyg8YHNUQaj0n4DGAhVWJBIAQaXgPtk1nlLO4bX62K7KoqINwiGIO3xK3-eSoNqWds65xdPl1fnUHFdycaE3SyziRdw6nRis0X34pykfuh_KoPrazqG3TUrGTiBaSE4_3i-lfWpT0vYnKUYpjN_CRjaFyV5OXU0y1K0LjXs3orX_IXtIMxJaa-9923FtHwxEhBevTbhFEX8UVW6XaAPchWj-4ej7jl9ysBjxLJ8eZXsYPvwnEJr57qTPS2s42cGZHl2S9FoJAq7OYYAKSjsqFy499uaj1dksaqM3dCO35tyTcsOY-LCHNwWTgeGuio4wclaWmoGy2Z5qvs6XGpHn3EN0PibzGOR5zxbO_2_jdxh0tS11zASNTAILcDzAtKwNw&src-supplier=Texas+Instruments; ComponentLink2URL: https://datasheet.octopart.com:443/LM1117MPX-3.3-NOPB-Texas-Instruments-datasheet-41215743.pdf?src-supplier=Texas+Instruments; ComponentLink2Description: https://datasheet.octopart.com:443/LM1117MPX-3.3-NOPB-Texas-Instruments-datasheet-41215743.pdf?src-supplier=Texas+Instruments; ComponentLink3URL: https://datasheet.octopart.com:443/LM1117MPX-3.3-NOPB-Texas-Instruments-datasheet-14446414.pdf?src-supplier=Texas+Instruments; ComponentLink3Description: https://datasheet.octopart.com:443/LM1117MPX-3.3-NOPB-Texas-Instruments-datasheet-14446414.pdf?src-supplier=Texas+Instruments; ComponentLink4URL: https://datasheet.octopart.com:443/LM1117MPX-3.3/NOPB-Texas-Instruments-datasheet-12535596.pdf?src-supplier=Texas+Instruments; ComponentLink4Description: https://datasheet.octopart.com:443/LM1117MPX-3.3/NOPB-Texas-Instruments-datasheet-12535596.pdf?src-supplier=Texas+Instruments; ComponentLink5URL: https://datasheet.octopart.com:443/LM1117MPX-3.3/NOPB-Texas-Instruments-datasheet-12511695.pdf?src-supplier=Texas+Instruments; ComponentLink5Description: https://datasheet.octopart.com:443/LM1117MPX-3.3/NOPB-Texas-Instruments-datasheet-12511695.pdf?src-supplier=Texas+Instruments; ComponentLink6URL: https://sigma.octopart.com:443/49253063/technical_drawing/Texas-Instruments-LM1117MPX-3.3-NOPB.pdf?src-supplier=Texas+Instruments; ComponentLink6Description: https://sigma.octopart.com:443/49253063/technical_drawing/Texas-Instruments-LM1117MPX-3.3-NOPB.pdf?src-supplier=Texas+Instruments; ComponentLink7URL: https://datasheet.octopart.com:443/LM1117MPX-3.3-NOPB-Texas-Instruments-datasheet-94061979.pdf?src-supplier=Upverter; ComponentLink7Description: https://datasheet.octopart.com:443/LM1117MPX-3.3-NOPB-Texas-Instruments-datasheet-94061979.pdf?src-supplier=Upverter; ComponentLink8URL: https://datasheet.octopart.com:443/LM1117MPX-3.3-NOPB-Texas-Instruments-datasheet-10632765.pdf?src-supplier=Arrow+Electronics; ComponentLink8Description: https://datasheet.octopart.com:443/LM1117MPX-3.3-NOPB-Texas-Instruments-datasheet-10632765.pdf?src-supplier=Arrow+Electronics; ComponentLink9URL: https://datasheet.octopart.com:443/LM1117MPX-3.3-NOPB-Texas-Instruments-datasheet-21076645.pdf?src-supplier=Farnell; ComponentLink9Description: https://datasheet.octopart.com:443/LM1117MPX-3.3-NOPB-Texas-Instruments-datasheet-21076645.pdf?src-supplier=Farnell; ComponentLink10URL: https://datasheet.octopart.com:443/LM1117MPX-3.3-NOPB-Texas-Instruments-datasheet-31978425.pdf?src-supplier=Farnell; ComponentLink10Description: https://datasheet.octopart.com:443/LM1117MPX-3.3-NOPB-Texas-Instruments-datasheet-31978425.pdf?src-supplier=Farnell; ComponentLink11URL: https://datasheet.octopart.com:443/LM1117MPX-3.3-NOPB-Texas-Instruments-datasheet-16079551.pdf?src-supplier=Newark; ComponentLink11Description: https://datasheet.octopart.com:443/LM1117MPX-3.3-NOPB-Texas-Instruments-datasheet-16079551.pdf?src-supplier=Newark; ComponentLink12URL: https://datasheet.octopart.com:443/LM1117MPX-3.3-NOPB.-Texas-Instruments-datasheet-62088709.pdf?src-supplier=element14+APAC; ComponentLink12Description: https://datasheet.octopart.com:443/LM1117MPX-3.3-NOPB.-Texas-Instruments-datasheet-62088709.pdf?src-supplier=element14+APAC; ComponentLink13URL: https://datasheet.octopart.com:443/LM1117MPX-3.3-NOPB.-Texas-Instruments-datasheet-37140173.pdf?src-supplier=element14+APAC; ComponentLink13Description: https://datasheet.octopart.com:443/LM1117MPX-3.3-NOPB.-Texas-Instruments-datasheet-37140173.pdf?src-supplier=element14+APAC; ComponentLink14URL: https://datasheet.octopart.com:443/LM1117MPX-3.3/NOPB-National-Semiconductor-datasheet-2078.pdf?src-supplier=Future+Electronics; ComponentLink14Description: https://datasheet.octopart.com:443/LM1117MPX-3.3/NOPB-National-Semiconductor-datasheet-2078.pdf?src-supplier=Future+Electronics; ComponentLink15URL: https://datasheet.octopart.com:443/LM1117MPX-3.3-NOPB-Texas-Instruments-datasheet-137316104.pdf?src-supplier=Future+Electronics; ComponentLink15Description: https://datasheet.octopart.com:443/LM1117MPX-3.3-NOPB-Texas-Instruments-datasheet-137316104.pdf?src-supplier=Future+Electronics; ComponentLink16URL: https://datasheet.octopart.com:443/LM1117MPX-3.3-NOPB-Texas-Instruments-datasheet-159115086.pdf?src-supplier=LCSC; ComponentLink16Description: https://datasheet.octopart.com:443/LM1117MPX-3.3-NOPB-Texas-Instruments-datasheet-159115086.pdf?src-supplier=LCSC; ComponentLink17URL: https://datasheet.octopart.com:443/LM1117MPX-3.3/NOPB-National-Semiconductor-datasheet-9587271.pdf?src-supplier=RS+(Formerly+Allied+Electronics); ComponentLink17Description: https://datasheet.octopart.com:443/LM1117MPX-3.3/NOPB-National-Semiconductor-datasheet-9587271.pdf?src-supplier=RS+(Formerly+Allied+Electronics); ComponentLink18URL: https://datasheet.octopart.com:443/LM1117MPX-3.3-NOPB-Texas-Instruments-datasheet-7550779.pdf?src-supplier=Jameco; ComponentLink18Description: https://datasheet.octopart.com:443/LM1117MPX-3.3-NOPB-Texas-Instruments-datasheet-7550779.pdf?src-supplier=Jameco; ComponentLink19URL: http://sigma.octopart.com:80/reach_statement/Texas-Instruments-company-64.pdf?src-supplier=Compliance+Statements; ComponentLink19Description: http://sigma.octopart.com:80/reach_statement/Texas-Instruments-company-64.pdf?src-supplier=Compliance+Statements; ComponentLink20URL: http://sigma.octopart.com:80/conflict_mineral_statement/Texas-Instruments-company-63.pdf?src-supplier=Compliance+Statements; ComponentLink20Description: http://sigma.octopart.com:80/conflict_mineral_statement/Texas-Instruments-company-63.pdf?src-supplier=Compliance+Statements
pins: 1 GND, 2 V_OUT, 3 V_IN, 4 V_OUT

## LM2575S-5.0 (UMW)
designator U?
52kHz Buck Fixed 2A 5V TO-263-5 Voltage Regulators - DC DC Switching Regulators RoHS; Manufacturer Lifecycle Status: ACTIVE; Efficiency: 77%; Max Supply Voltage: 40V; Max Output current: 1A; Min Input Voltage: 4V; Number of Channels: 1; Quiescent Current: 10mA; Switching Frequency: 58kHz; Synchronous Rectifier: No; Supplier: LCSC; Supplier Part Number: C347405; Manufacturer: UMW; Manufacturer Part Number: LM2575S-5.0(UMW); RoHS: Compliant; Category: Voltage Regulators - Switching; Stock: 1142; Pricing: 1=1.997, 10=1.709, 30=1.5282, 100=1.2674, 500=1.1826, 1000=1.1474 (USD); Case/Package: TO-263; Contact Plating: Tin; Height: 4.83mm; Length: 10.16mm; Lifecycle Status: Production; Max Operating Temperature: 125°C; Min Operating Temperature: -40°C; Mounting Technology: Surface Mount; Nominal Output Voltage: 5V; Number of Outputs: 1; Pins: 5; Operating Supply Voltage: 40V; Output Current: 1A; Output Type: Fixed; Output Voltage: 5V; Radiation Hardening: No; REACH SVHC: No; Schedule B: 8542390000, 8542390000|8542390000|8542390000|8542390000, 8542390000|8542390000|8542390000|8542390000|8542390000|8542390000|8542390000|8542390000|8542390000|8542390000|8542390000|8542390000|8542390000|8542390000|8542390000|8542390000|8542390000|8542390000|8542390000|8542390000|8542390000|8542390000|8542390000|85; Thickness: 4.58mm; Topology: Buck; Width: 8.42mm; ComponentLink1URL: https://www.lcsc.com/datasheet/C347405.pdf; ComponentLink1Description: https://www.lcsc.com/datasheet/C347405.pdf
footprint DPAK6P170_1534X467L254X81T736X1018N (DPAK, 1.70 mm pitch; 6 pin, 8.40 mm L X 10.03 mm W X 4.67 mm H body)
pins: 1 V_IN, 2 OUTPUT, 3 GND, 4 FEEDBACK, 5 ~{ON} / OFF